# Altium footprint library Custom.PcbLib: 446 footprints (part 19 of 28)
Each footprint in its own frame and in the unit in brackets; x right, y up, seen from the top. Pads: shape width x height; smd on the part's side, far side on the other; paste and mask are expansions set on the pad; w line width, h text height; cw(c..) or ccw(c..) is an arc to the next point about the centre after c.
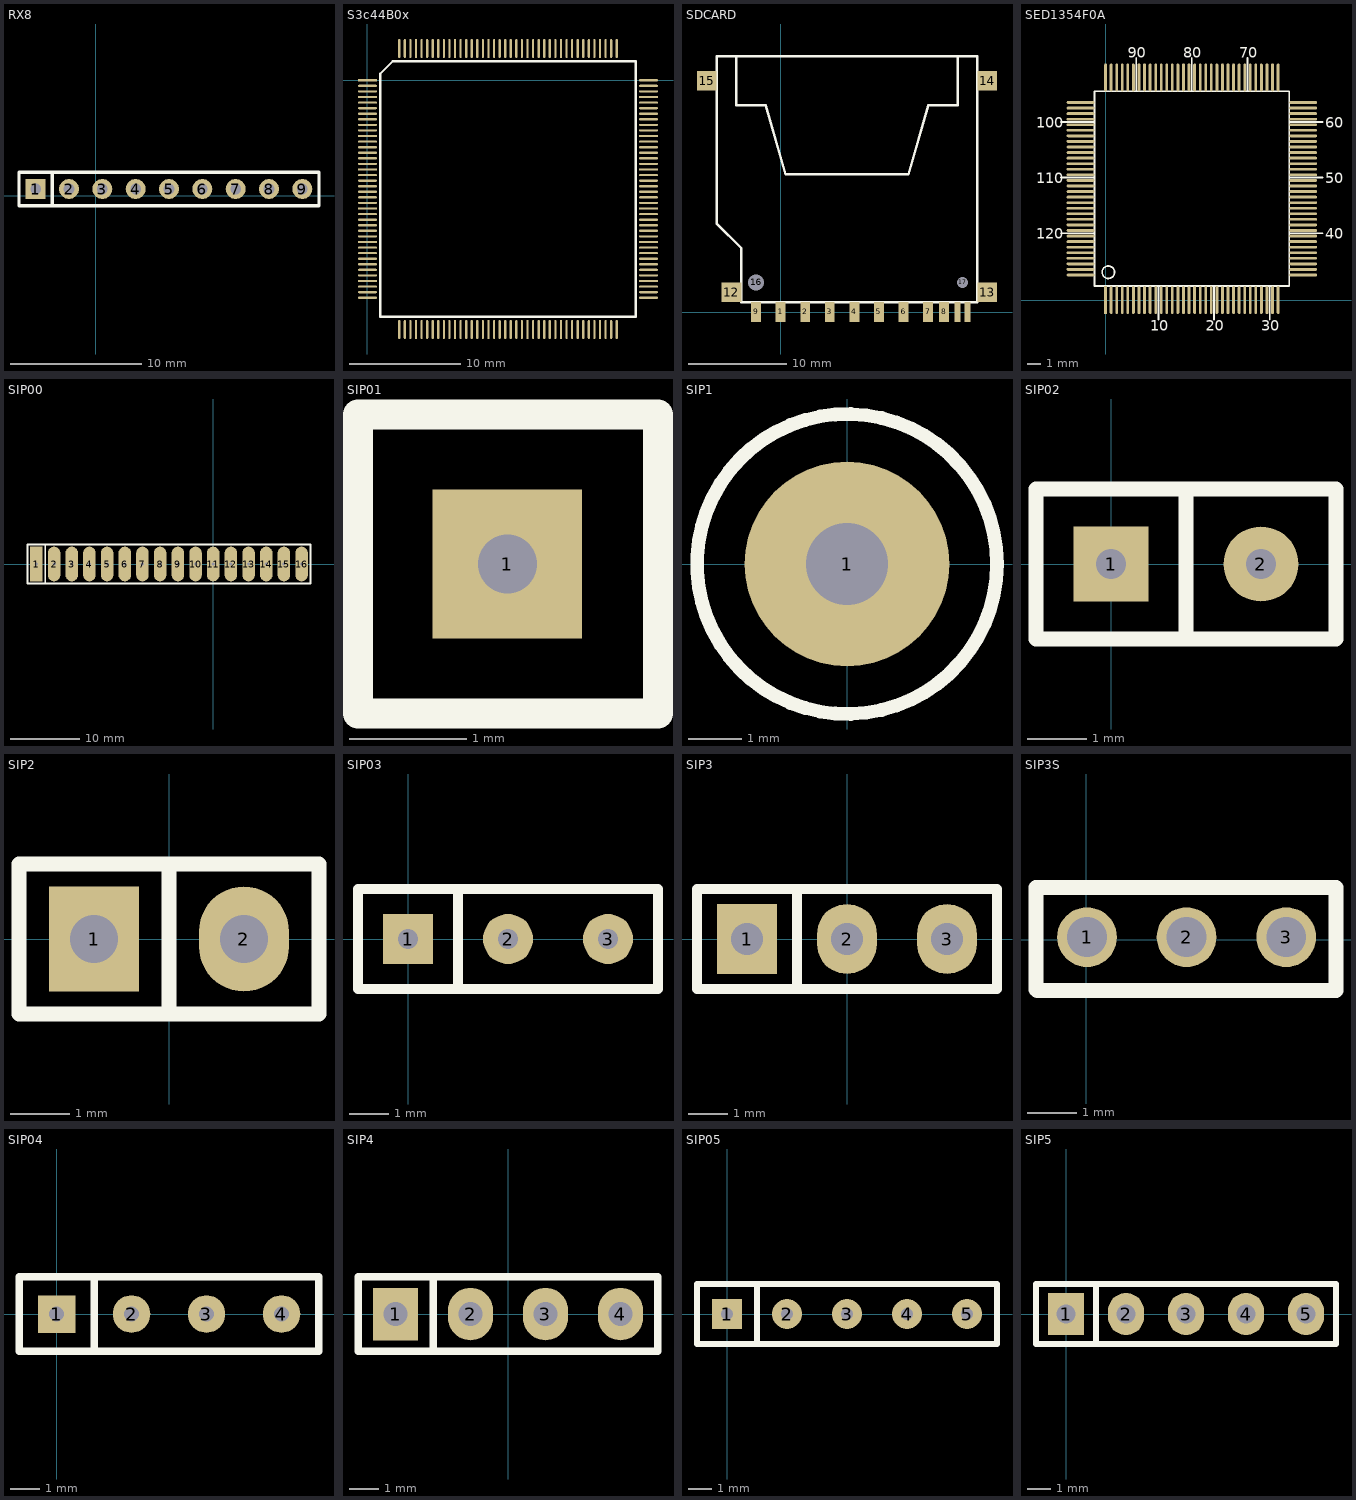
[diagram p18: the footprints below, top view; thin cyan lines are the x and y axes]

## RX8 [mil]
pads (9):
  rect 60x60 hole 32: 1(-180,20)
  round 60 hole 32: 2(-80,20) 3(20,20) 4(120,20) 5(220,20) 6(320,20) 7(420,20) 8(520,20) 9(620,20)
Top Overlay:
  lines w10: -130,-30 -130,70 ; -230,-30 670,-30 670,70 -230,70 -230,-30

## S3c44B0x [mm]
pads (160):
  rect 1.7x0.2 smd: 1(0,0)
  oval 1.7x0.2 smd: 2(0,-0.5) 3(0,-1) 4(0,-1.5) 5(0,-2) 6(0,-2.5) 7(0,-3) 8(0,-3.5) 9(0,-4) 10(0,-4.5) 11(0,-5) 12(0,-5.5) 13(0,-6) 14(0,-6.5) 15(0,-7) 16(0,-7.5) 17(0,-8) 18(0,-8.5) 19(0,-9) 20(0,-9.5) 21(0,-10) 22(0,-10.5) 23(0,-11) 24(0,-11.5) 25(0,-12) 26(0,-12.5) 27(0,-13) 28(0,-13.5) 29(0,-14) 30(0,-14.5) 31(0,-15) 32(0,-15.5) 33(0,-16) 34(0,-16.5) 35(0,-17) 36(0,-17.5) 37(0,-18) 38(0,-18.5) 39(0,-19) 40(0,-19.5) 81(25.2,-19.5) 82(25.2,-19) 83(25.2,-18.5) 84(25.2,-18) 85(25.2,-17.5) 86(25.2,-17) 87(25.2,-16.5) 88(25.2,-16) 89(25.2,-15.5) 90(25.2,-15) 91(25.2,-14.5) 92(25.2,-14) 93(25.2,-13.5) 94(25.2,-13) 95(25.2,-12.5) 96(25.2,-12) 97(25.2,-11.5) 98(25.2,-11) 99(25.2,-10.5) 100(25.2,-10) 101(25.2,-9.5) 102(25.2,-9) 103(25.2,-8.5) 104(25.2,-8) 105(25.2,-7.5) 106(25.2,-7) 107(25.2,-6.5) 108(25.2,-6) 109(25.2,-5.5) 110(25.2,-5) 111(25.2,-4.5) 112(25.2,-4) 113(25.2,-3.5) 114(25.2,-3) 115(25.2,-2.5) 116(25.2,-2) 117(25.2,-1.5) 118(25.2,-1) 119(25.2,-0.5) 120(25.2,0)
  oval 0.2x1.7 smd: 41(2.85,-22.35) 42(3.35,-22.35) 43(3.85,-22.35) 44(4.35,-22.35) 45(4.85,-22.35) 46(5.35,-22.35) 47(5.85,-22.35) 48(6.35,-22.35) 49(6.85,-22.35) 50(7.35,-22.35) 51(7.85,-22.35) 52(8.35,-22.35) 53(8.85,-22.35) 54(9.35,-22.35) 55(9.85,-22.35) 56(10.35,-22.35) 57(10.85,-22.35) 58(11.35,-22.35) 59(11.85,-22.35) 60(12.35,-22.35) 61(12.85,-22.35) 62(13.35,-22.35) 63(13.85,-22.35) 64(14.35,-22.35) 65(14.85,-22.35) 66(15.35,-22.35) 67(15.85,-22.35) 68(16.35,-22.35) 69(16.85,-22.35) 70(17.35,-22.35) 71(17.85,-22.35) 72(18.35,-22.35) 73(18.85,-22.35) 74(19.35,-22.35) 75(19.85,-22.35) 76(20.35,-22.35) 77(20.85,-22.35) 78(21.35,-22.35) 79(21.85,-22.35) 80(22.35,-22.35) 121(22.35,2.85) 122(21.85,2.85) 123(21.35,2.85) 124(20.85,2.85) 125(20.35,2.85) 126(19.85,2.85) 127(19.35,2.85) 128(18.85,2.85) 129(18.35,2.85) 130(17.85,2.85) 131(17.35,2.85) 132(16.85,2.85) 133(16.35,2.85) 134(15.85,2.85) 135(15.35,2.85) 136(14.85,2.85) 137(14.35,2.85) 138(13.85,2.85) 139(13.35,2.85) 140(12.85,2.85) 141(12.35,2.85) 142(11.85,2.85) 143(11.35,2.85) 144(10.85,2.85) 145(10.35,2.85) 146(9.85,2.85) 147(9.35,2.85) 148(8.85,2.85) 149(8.35,2.85) 150(7.85,2.85) 151(7.35,2.85) 152(6.85,2.85) 153(6.35,2.85) 154(5.85,2.85) 155(5.35,2.85) 156(4.85,2.85) 157(4.35,2.85) 158(3.85,2.85) 159(3.35,2.85) 160(2.85,2.85)
Top Overlay:
  lines w0.2: 1.135,-21.215 1.135,0.58 2.27,1.715 24.065,1.715 24.065,-21.215 1.135,-21.215

## SDCARD [mm]
pads (17):
  rect 1x2 smd: 1(0.007,0.016) 2(2.507,0.016) 3(5.007,0.016) 4(7.507,0.016) 5(10.007,0.016) 6(12.507,0.016) 7(15.007,0.016) 8(16.632,0.016) 9(-2.493,0.016)
  rect 0.6x2 smd: 10(19.007,0.016) 11(18.007,0.016)
  rect 2x2 smd: 12(-4.993,2.016) 13(21.007,2.016) 14(21.007,23.516) 15(-7.493,23.516)
  round 1.5 hole 1.6: 16(-2.493,3.016)
  round 1 hole 1.1: 17(18.507,3.016)
Top Overlay:
  lines w0.254: -4.493,26.016 -4.493,21.016 -1.493,21.016 0.507,14.016 13.007,14.016 15.007,21.016 18.007,21.016 18.007,26.016 ; -6.493,9.016 -6.493,26.016 20.007,26.016 20.007,1.016 -3.993,1.016 -3.993,6.516 -6.493,9.016

## SED1354F0A [mm]
pads (128):
  rect 0.2x2 smd: 1(0,0)
  oval 0.2x2 smd: 2(0.4,0) 3(0.8,0) 4(1.2,0) 5(1.6,0) 6(2,0) 7(2.4,0) 8(2.8,0) 9(3.2,0) 10(3.6,0) 11(4,0) 12(4.4,0) 13(4.8,0) 14(5.2,0) 15(5.6,0) 16(6,0) 17(6.4,0) 18(6.8,0) 19(7.2,0) 20(7.6,0) 21(8,0) 22(8.4,0) 23(8.8,0) 24(9.2,0) 25(9.6,0) 26(10,0) 27(10.4,0) 28(10.8,0) 29(11.2,0) 30(11.6,0) 31(12,0) 32(12.4,0) 65(12.4,16) 66(12,16) 67(11.6,16) 68(11.2,16) 69(10.8,16) 70(10.4,16) 71(10,16) 72(9.6,16) 73(9.2,16) 74(8.8,16) 75(8.4,16) 76(8,16) 77(7.6,16) 78(7.2,16) 79(6.8,16) 80(6.4,16) 81(6,16) 82(5.6,16) 83(5.2,16) 84(4.8,16) 85(4.4,16) 86(4,16) 87(3.6,16) 88(3.2,16) 89(2.8,16) 90(2.4,16) 91(2,16) 92(1.6,16) 93(1.2,16) 94(0.8,16) 95(0.4,16) 96(0,16)
  oval 2x0.2 smd: 33(14.2,1.8) 34(14.2,2.2) 35(14.2,2.6) 36(14.2,3) 37(14.2,3.4) 38(14.2,3.8) 39(14.2,4.2) 40(14.2,4.6) 41(14.2,5) 42(14.2,5.4) 43(14.2,5.8) 44(14.2,6.2) 45(14.2,6.6) 46(14.2,7) 47(14.2,7.4) 48(14.2,7.8) 49(14.2,8.2) 50(14.2,8.6) 51(14.2,9) 52(14.2,9.4) 53(14.2,9.8) 54(14.2,10.2) 55(14.2,10.6) 56(14.2,11) 57(14.2,11.4) 58(14.2,11.8) 59(14.2,12.2) 60(14.2,12.6) 61(14.2,13) 62(14.2,13.4) 63(14.2,13.8) 64(14.2,14.2) 97(-1.8,14.2) 98(-1.8,13.8) 99(-1.8,13.4) 100(-1.8,13) 101(-1.8,12.6) 102(-1.8,12.2) 103(-1.8,11.8) 104(-1.8,11.4) 105(-1.8,11) 106(-1.8,10.6) 107(-1.8,10.2) 108(-1.8,9.8) 109(-1.8,9.4) 110(-1.8,9) 111(-1.8,8.6) 112(-1.8,8.2) 113(-1.8,7.8) 114(-1.8,7.4) 115(-1.8,7) 116(-1.8,6.6) 117(-1.8,6.2) 118(-1.8,5.8) 119(-1.8,5.4) 120(-1.8,5) 121(-1.8,4.6) 122(-1.8,4.2) 123(-1.8,3.8) 124(-1.8,3.4) 125(-1.8,3) 126(-1.8,2.6) 127(-1.8,2.2) 128(-1.8,1.8)
Top Overlay:
  circle w0.127: c0.2,2 r0.447
  lines w0.127: -3.2,4.8 -0.8,4.8 ; -3.2,8.8 -0.8,8.8 ; -3.2,12.8 -0.8,12.8 ; 2.2,15 2.2,17.4 ; 3.8,-1.4 3.8,1 ; 6.2,15 6.2,17.4 ; 7.8,-1.4 7.8,1 ; 10.2,15 10.2,17.4 ; 11.8,-1.4 11.8,1 ; 13.2,4.8 15.6,4.8 ; 13.2,8.8 15.6,8.8 ; 13.2,12.8 15.6,12.8 ; -0.8,1 -0.8,15 13.2,15 13.2,1 -0.8,1
  text "120" at -5,4.4 h0.76
  text "110" at -5,8.4 h0.76
  text "100" at -5,12.4 h0.76
  text "90" at 1.6,17.4 h0.76
  text "80" at 5.6,17.4 h0.76
  text "70" at 9.6,17.4 h0.76
  text "60" at 15.8,12.4 h0.76
  text "50" at 15.8,8.4 h0.76
  text "40" at 15.8,4.4 h0.76
  text "30" at 11.2,-2.2 h0.76
  text "20" at 7.2,-2.2 h0.76
  text "10" at 3.2,-2.2 h0.76

## SIP00 [mm]
pads (16):
  rect 1.8x5 hole 0.5: 1(-25.4,0)
  oval 1.8x5 hole 0.5: 2(-22.86,0) 3(-20.32,0) 4(-17.78,0) 5(-15.24,0) 6(-12.7,0) 7(-10.16,0) 8(-7.62,0) 9(-5.08,0) 10(-2.54,0) 11(0,0) 12(2.54,0) 13(5.08,0) 14(7.62,0) 15(10.16,0) 16(12.7,0)
Top Overlay:
  lines w0.254: -24.13,-2.794 -24.13,2.794 ; -26.67,-2.794 -26.67,2.794 13.97,2.794 13.97,-2.794 -26.67,-2.794

## SIP01 [mm]
pads (1):
  rect 1.27x1.27 hole 0.5: 1(50.8,101.6)
Top Overlay:
  lines w0.254: 52.06,100.33 49.53,100.33 49.53,102.87 52.07,102.87 ; 52.08,100.33 52.08,102.87

## SIP1 [mil]
pads (1):
  round 150 hole 60: 1(0,0)
Top Overlay:
  circle w10: c0,0 r110

## SIP02 [mm]
pads (2):
  rect 1.27x1.27 hole 0.5: 1(0,0)
  round 1.27 hole 0.5: 2(2.54,0)
Top Overlay:
  lines w0.254: 1.27,-1.27 1.27,1.27 ; -1.27,-1.27 -1.27,1.27 3.81,1.27 3.81,-1.27 -1.27,-1.27

## SIP2 [mil]
pads (2):
  rect 60x70 hole 32: 1(-50,0)
  oval 60x70 hole 32: 2(50,0)
Top Overlay:
  lines w10: 0,-50 0,50 ; -100,-50 -100,50 100,50 100,-50 -100,-50

## SIP03 [mm]
pads (3):
  rect 1.27x1.27 hole 0.5: 1(0,0)
  round 1.27 hole 0.5: 2(2.54,0) 3(5.08,0)
Top Overlay:
  lines w0.254: 1.27,-1.27 1.27,1.27 ; -1.27,-1.27 6.35,-1.27 6.35,1.27 -1.27,1.27 -1.27,-1.27

## SIP3 [mil]
pads (3):
  rect 60x70 hole 32: 1(-100,0)
  oval 60x70 hole 32: 2(0,0) 3(100,0)
Top Overlay:
  lines w10: -50,-50 -50,50 ; -150,-50 -150,50 150,50 150,-50 -150,-50

## SIP3S [mm]
pads (3):
  round 1.2 hole 0.8: 1(0.017,0.052) 2(2.017,0.052) 3(4.017,0.052)
Top Overlay:
  lines w0.305: -1.008,-0.998 -0.983,-1.023 5.017,-1.023 5.017,1.052 -1.008,1.052 -1.008,0.052 -1.008,-0.998

## SIP04 [mm]
pads (4):
  rect 1.27x1.27 hole 0.5: 1(0,0)
  round 1.27 hole 0.5: 2(2.54,0) 3(5.08,0) 4(7.62,0)
Top Overlay:
  lines w0.254: 1.27,-1.27 1.27,1.27 ; -1.27,-1.27 -1.27,1.27 8.89,1.27 8.89,-1.27 -1.27,-1.27

## SIP4 [mil]
pads (4):
  rect 60x70 hole 32: 1(-150,0)
  oval 60x70 hole 32: 2(-50,0) 3(50,0) 4(150,0)
Top Overlay:
  lines w10: -100,-50 -100,50 ; -200,-50 200,-50 200,50 -200,50 -200,-50

## SIP05 [mm]
pads (5):
  rect 1.27x1.27 hole 0.5: 1(0,0)
  round 1.27 hole 0.5: 2(2.54,0) 3(5.08,0) 4(7.62,0) 5(10.16,0)
Top Overlay:
  lines w0.254: 1.27,-1.27 1.27,1.27 ; -1.27,-1.27 -1.27,1.27 11.43,1.27 11.43,-1.27 -1.27,-1.27

## SIP5 [mil]
pads (5):
  rect 60x70 hole 32: 1(0,0)
  oval 60x70 hole 32: 2(100,0) 3(200,0) 4(300,0) 5(400,0)
Top Overlay:
  lines w10: 50,-50 50,50 ; -50,-50 450,-50 450,50 -50,50 -50,-50